# EAGLE library part TSC2046EQPWRQ1 (library ruark2)
Touch Screen Controllers 4-wire Touch Screen Controller
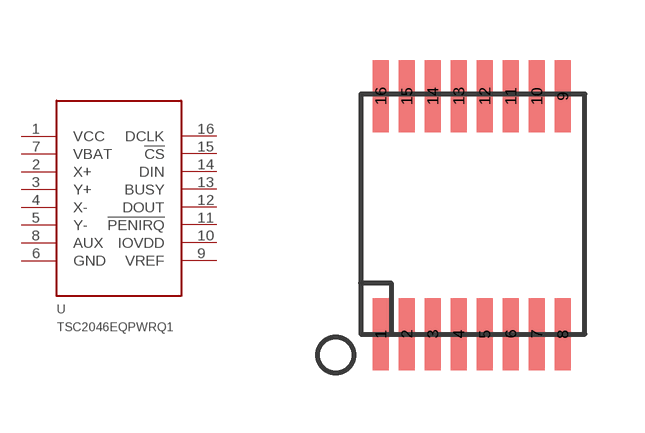
[diagram p140: symbol with the pads of TSSOP16; footprint TSSOP16]

Designator prefix U

## TSC2046EQPWRQ1 (PARTNO: 2156-TSC2046EQPWRQ1-ND)  [TSSOP16]
1  VCC
2  X+
3  Y+
4  X-
5  Y-
6  GND
7  VBAT
8  AUX
9  VREF
10  IOVDD
11  !PENIRQ
12  DOUT
13  BUSY
14  DIN
15  !CS
16  DCLK

## Footprint TSSOP16 (pad centres in mm)
smd 0.4 x 1.8: 1 -2.275,-2.975; 2 -1.625,-2.975; 3 -0.975,-2.975; 4 -0.325,-2.975; 5 0.325,-2.975; 6 0.975,-2.975; 7 1.625,-2.975; 8 2.275,-2.975; 9 2.275,2.975; 10 1.625,2.975; 11 0.975,2.975; 12 0.325,2.975; 13 -0.325,2.975; 14 -0.975,2.975; 15 -1.625,2.975; 16 -2.275,2.975